# EAGLE library part TX-AUDIO-2.4 (library aurel)
MODULE, TRANSMITTER, 2.4GHZ, AUDIO Development Tool Type: Hardware - Module Kit Features: 2.4GHz Digital Audio Signal Transmitter, 10dBm Transmit Power Tool / Board Application: Digital Audio Transmitter Type: Digital Audio Transmitter farnell.com <http://ro.farnell.com/aurel/tx-audio-2-4-ae/module-transmitter-2-4ghz-audio/dp/1699492?in_merch=true&MER=i-9b10-00001460>
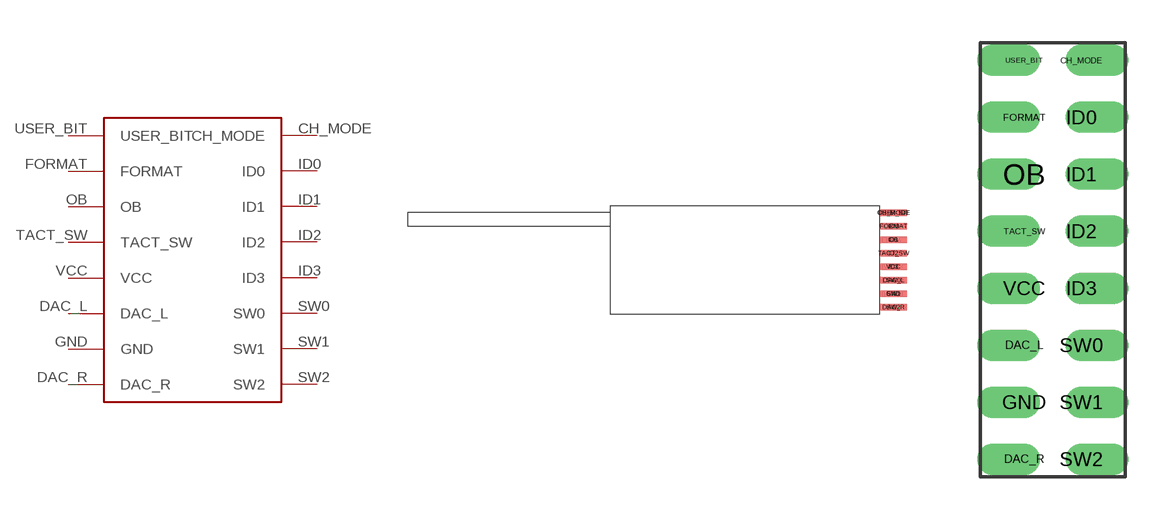
[diagram p0: symbol with the pads of AUREL-TX-AUDIO-2.4GHZ; footprints AUREL-TX-AUDIO-2.4GHZ, AUREL-TX-AUDIO-2.4GH-TRH]

Designator prefix -

## TX-AUDIO-2.4HORIZONTAL  [AUREL-TX-AUDIO-2.4GHZ]
CH_MODE  CH_MODE
DAC_L  DAC_L
DAC_R  DAC_R
FORMAT  FORMAT
GND  GND
ID0  ID0
ID1  ID1
ID2  ID2
ID3  ID3
OB  OB
SW0  SW0
SW1  SW1
SW2  SW2
TACT_SW  TACT_SW
USER_BIT  USER_BIT
VCC  VCC

## TX-AUDIO-2.4VERTICAL  [AUREL-TX-AUDIO-2.4GH-TRH]
Pads as for AUREL-TX-AUDIO-2.4GHZ

## Footprint AUREL-TX-AUDIO-2.4GHZ (pad centres in mm)
smd 4 x 1: CH_MODE 21.5,6.5; ID0 21.5,4.5; ID1 21.5,2.5; ID2 21.5,0.5; ID3 21.5,-1.5; SW0 21.5,-3.5; SW1 21.5,-5.5; SW2 21.5,-7.5
smd 4 x 1 bottom: DAC_L 21.5,-3.5; DAC_R 21.5,-7.5; FORMAT 21.5,4.5; GND 21.5,-5.5; OB 21.5,2.5; TACT_SW 21.5,0.5; USER_BIT 21.5,6.5; VCC 21.5,-1.5

## Footprint AUREL-TX-AUDIO-2.4GH-TRH (pad centres in mm)
drill 0.6 offset: CH_MODE 1,7; DAC_L -1,-3; DAC_R -1,-7; FORMAT -1,5; GND -1,-5; ID0 1,5; ID1 1,3; ID2 1,1; ID3 1,-1; OB -1,3; SW0 1,-3; SW1 1,-5; SW2 1,-7; TACT_SW -1,1; USER_BIT -1,7; VCC -1,-1